# EAGLE library part DECODER3-8 (library digital)
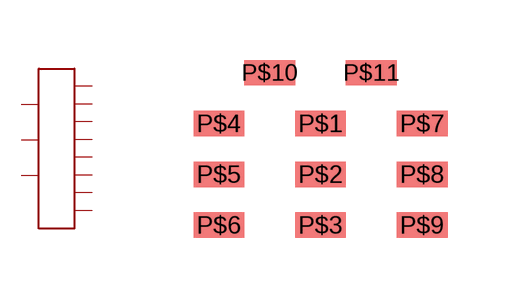
[diagram p7: symbol with the pads of 11PIN; footprint 11PIN]

Designator prefix -

## DECODER3-8  [11PIN]
P$1  P$1
P$2  P$2
P$3  P$3
P$4  P$4
P$5  P$5
P$6  P$6
P$7  P$7
P$8  P$8
P$9  P$9
P$10  P$10
P$11  P$11

## Footprint 11PIN (pad centres in mm)
smd 1.27 x 0.635: P$1 0,1.27; P$2 0,0; P$3 0,-1.27; P$4 -2.54,1.27; P$5 -2.54,0; P$6 -2.54,-1.27; P$7 2.54,1.27; P$8 2.54,0; P$9 2.54,-1.27; P$10 -1.27,2.54; P$11 1.27,2.54